# Altium schematic symbol library Mixer.SchLib: 6 symbols
Pins are listed as number, name and electrical type; pins without a type are passive.

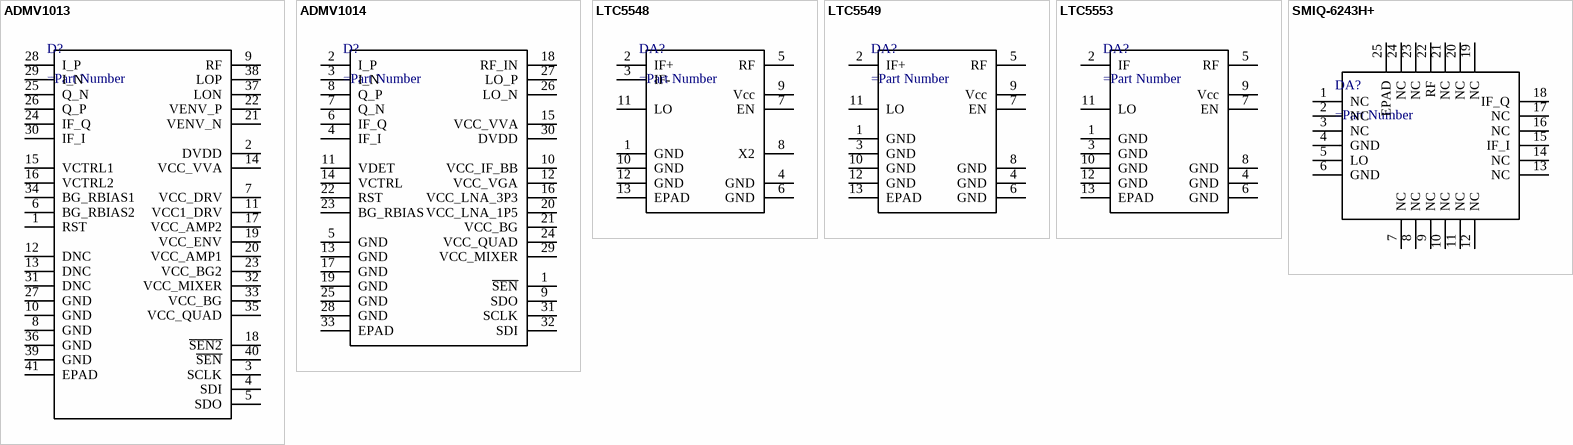
[diagram p0: symbols ADMV1013 to SMIQ-6243H+]

## ADMV1013
designator D?
pins: 1 RST, 2 DVDD, 3 SCLK, 4 SDI, 5 SDO, 6 BG_RBIAS2, 7 VCC_DRV, 8 GND, 9 RF, 10 GND, 11 VCC1_DRV, 12 DNC, 13 DNC, 14 VCC_VVA, 15 VCTRL1, 16 VCTRL2, 17 VCC_AMP2, 18 ~{SEN2}, 19 VCC_ENV, 20 VCC_AMP1, 21 VENV_N, 22 VENV_P, 23 VCC_BG2, 24 IF_Q, 25 Q_N, 26 Q_P, 27 GND, 28 I_P, 29 I_N, 30 IF_I, 31 DNC, 32 VCC_MIXER, 33 VCC_BG, 34 BG_RBIAS1, 35 VCC_QUAD, 36 GND, 37 LON, 38 LOP, 39 GND, 40 ~{SEN}, 41 EPAD

## ADMV1014
designator D?
pins: 1 ~{SEN}, 2 I_P, 3 I_N, 4 IF_I, 5 GND, 6 IF_Q, 7 Q_N, 8 Q_P, 9 SDO, 10 VCC_IF_BB, 11 VDET, 12 VCC_VGA, 13 GND, 14 VCTRL, 15 VCC_VVA, 16 VCC_LNA_3P3, 17 GND, 18 RF_IN, 19 GND, 20 VCC_LNA_1P5, 21 VCC_BG, 22 RST, 23 BG_RBIAS, 24 VCC_QUAD, 25 GND, 26 LO_N, 27 LO_P, 28 GND, 29 VCC_MIXER, 30 DVDD, 31 SCLK, 32 SDI, 33 EPAD

## LTC5548
designator DA?
pins: 1 GND, 2 IF+, 3 IF-, 4 GND, 5 RF, 6 GND, 7 EN, 8 X2, 9 Vcc, 10 GND, 11 LO, 12 GND, 13 EPAD

## LTC5549
designator DA?
pins: 1 GND, 2 IF+, 3 GND, 4 GND, 5 RF, 6 GND, 7 EN, 8 GND, 9 Vcc, 10 GND, 11 LO, 12 GND, 13 EPAD

## LTC5553
designator DA?
pins: 1 GND, 2 IF, 3 GND, 4 GND, 5 RF, 6 GND, 7 EN, 8 GND, 9 Vcc, 10 GND, 11 LO, 12 GND, 13 EPAD

## SMIQ-6243H+
designator DA?
pins: 1 NC, 2 NC, 3 NC, 4 GND, 5 LO, 6 GND, 7 NC, 8 NC, 9 NC, 10 NC, 11 NC, 12 NC, 13 NC, 14 NC, 15 IF_I, 16 NC, 17 NC, 18 IF_Q, 19 NC, 20 NC, 21 NC, 22 RF, 23 NC, 24 NC, 25 EPAD